# Altium schematic symbol library SMD_Passives.SchLib: 178 symbols (part 1 of 2)
Pins are listed as number, name and electrical type; pins without a type are passive.

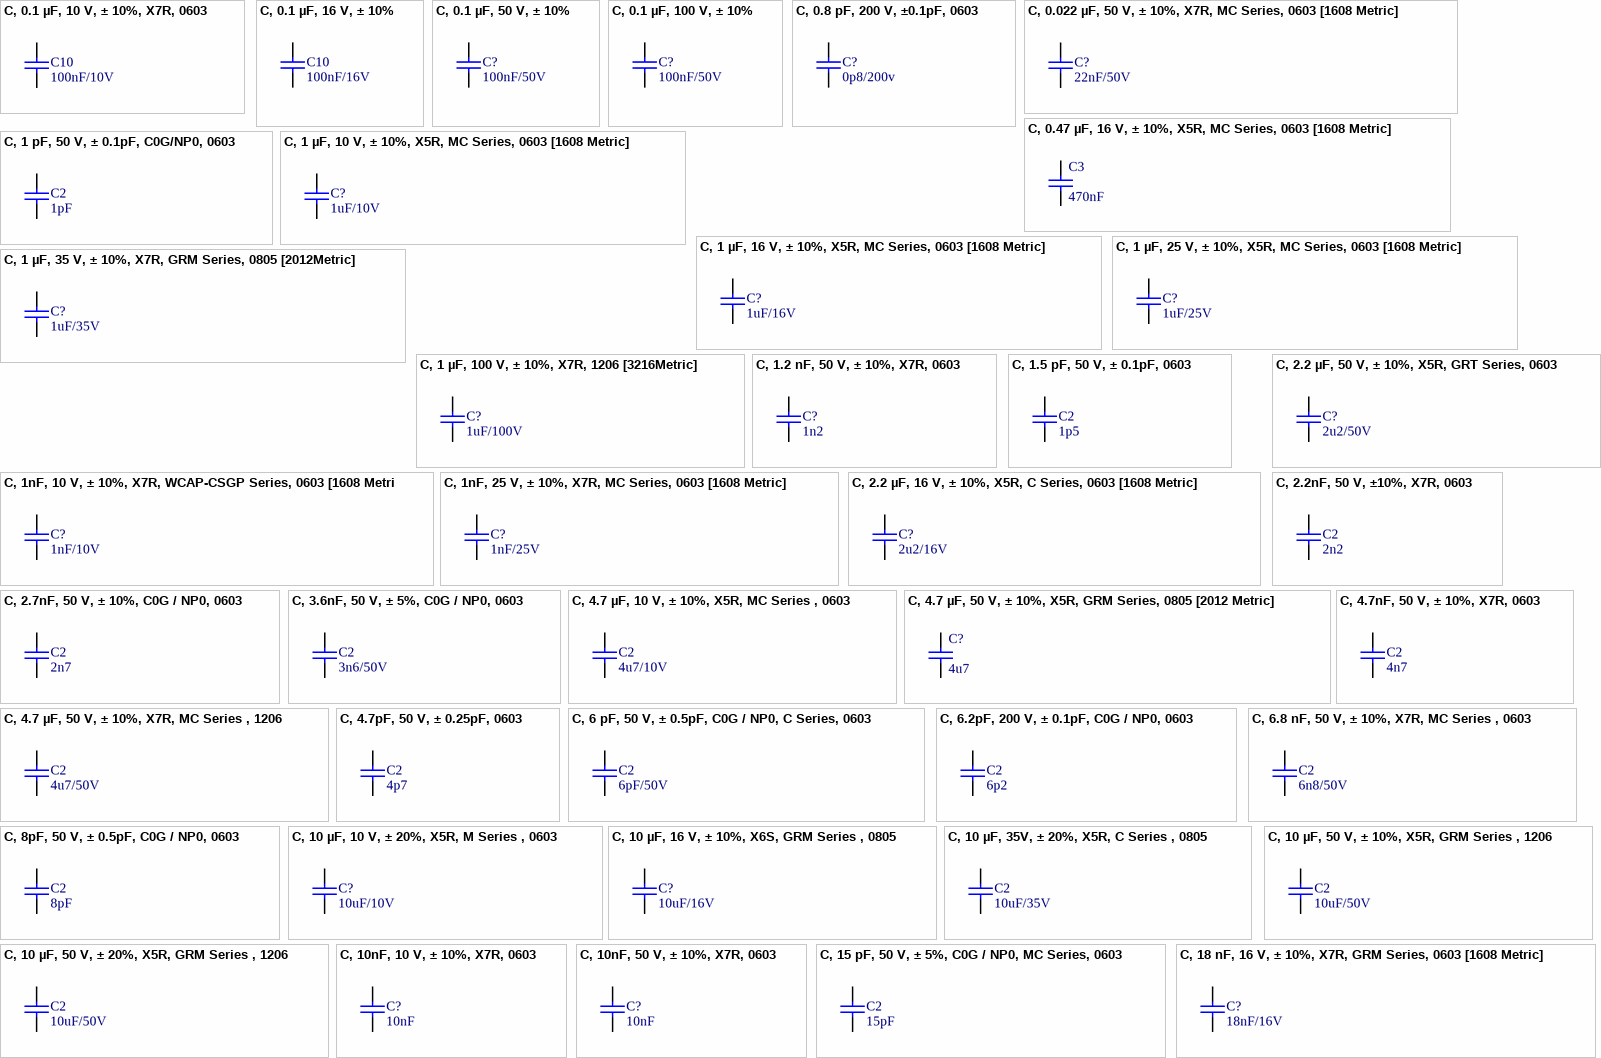
[diagram p0: symbols C, 0.1 µF, 10 V, ± 10%, X7R, 0603 to C, 18 nF, 16 V, ± 10%, X7R, GRM Series, 0603 [1608 Metric]]

## C, 0.1 µF, 10 V, ± 10%, X7R, 0603
designator C10, comment 100nF/10V
SMD Multilayer Ceramic Capacitor, 0603 [1608 Metric], 0.1 µF, 10 V, ± 10%, X7R, MC Series; MPN: MC0603B104K100CT; Type: MLCC; VoltageRating: 10V; MF: Multicomp; Capacitance: 100nF; Characteristic: X7R; ComponentLinknURL: *; Precision: 10%
footprint C0603 (0603 ceramic capacitor)
footprint C0603_BYPADD
footprint C0603_BYPASS
pins: 1, 2

## C, 0.1 µF, 16 V, ± 10%
designator C10, comment 100nF/16V
SMD Multilayer Ceramic Capacitor, 0603 [1608 Metric], 0.1 µF, 16 V, ± 10%, X7R, MC Series; MPN: MC0603B104K160CT; Type: MLCC; VoltageRating: 16V; ComponentLinknDescription: Datasheet; MF: Multicomp; Capacitance: 100nF; Characteristic: *; ComponentLinknURL: *; Precision: 10%
footprint C0603 (0603 ceramic capacitor)
footprint C0603_BYPADD
footprint C0603_BYPASS
pins: 1, 2

## C, 0.1 µF, 50 V, ± 10%
designator C?, comment 100nF/50V
SMD Multilayer Ceramic Capacitor, 0603 [1608 Metric], 0.1 µF, 50 V, ± 10%, X7R, MC Series; MPN: 885012206095; Type: MLCC; VoltageRating: 50V; ComponentLinknDescription: Datasheet; MF: Wurth Electronics; Capacitance: 100nF; Characteristic: *; ComponentLinknURL: *; Precision: 10%
footprint C0603 (0603 ceramic capacitor)
footprint C0603_BYPADD
footprint C0603_BYPASS
pins: 1, 2

## C, 0.1 µF, 100 V, ± 10%
designator C?, comment 100nF/50V
SMD Multilayer Ceramic Capacitor, 1812 [4532 Metric], 0.1 µF, 100 V, ± 5%, C0G / NP0, C Series; MPN: 885012206095; Type: MLCC; VoltageRating: 50V; ComponentLinknDescription: Datasheet; MF: Wurth Electronics; Capacitance: 100nF; Precision: 10%; Characteristic: *; ComponentLinknURL: *
footprint C1812 (1812 capacitor)
pins: 1, 2

## C, 0.8 pF, 200 V, ±0.1pF, 0603
designator C?, comment 0p8/200v
SMD Multilayer Ceramic Capacitor, 0603 [1608 Metric], 0.8 pF, 2000 V, ±0.1pF, C0G; MPN: 06032U0R8BAT2A; Type: MLCC; VoltageRating: 200v; ComponentLinknDescription: Datasheet; MF: AVX; Capacitance: 0p8; Characteristic: *; ComponentLinknURL: *; Precision: 0.1pF
footprint C0603 (0603 ceramic capacitor)
pins: 1, 2

## C, 0.022 µF, 50 V, ± 10%, X7R, MC Series, 0603 [1608 Metric]
designator C?, comment 22nF/50V
SMD Multilayer Ceramic Capacitor, 0603 [1608 Metric], 0.022 µF, 50 V, ± 10%, X7R, MC Series; MPN: MC0603B223K500CT; Type: MLCC; VoltageRating: 50V; MF: MULTICOMP; Capacitance: 22nF; Characteristic: X7R; Precision: 10%
footprint C0603 (0603 ceramic capacitor)
pins: 1, 2

## C, 0.47 µF, 16 V, ± 10%, X5R, MC Series, 0603 [1608 Metric]
designator C3, comment 470nF
SMD Multilayer Ceramic Capacitor, 0603 [1608 Metric], 0.47 µF, 16 V, ± 10%, X5R, MC Series; MPN: MC0603X474K160CT; Type: MLCC; Voltage rating: 16V; ComponentLinknDescription: Datasheet; MF: Multicomp; Characteristic: X5R; ComponentLinknURL: *; Capacitance: 470nF; Precision: 10%
footprint C0603 (0603 ceramic capacitor)
pins: 1, 2

## C, 1 pF, 50 V, ± 0.1pF, C0G/NP0, 0603
designator C2, comment 1pF
SMD Multilayer Ceramic Capacitor, 0603 [1608 Metric], 1 pF, 50 V, ± 0.1pF, C0G / NP0, GRM Series; MPN: GRM1885C1H1R0BA01D; Type: MLCC; VoltageRating: 50V; MF: MURATA; Characteristic: C0G/NP0; Capacitance: 1pF; Precision: ± 0.1pF
footprint C0603 (0603 ceramic capacitor)
pins: 1, 2

## C, 1 µF, 10 V, ± 10%, X5R, MC Series, 0603 [1608 Metric]
designator C?, comment 1uF/10V
SMD Multilayer Ceramic Capacitor, 0603 [1608 Metric], 1 µF, 10 V, ± 10%, X5R, MC Series; MPN: MC0603X105K100CT; Type: MLCC; VoltageRating: 10V; MF: MULTICOMP; Capacitance: 1uF; Characteristic: X5R; Precision: 10%
footprint C0603 (0603 ceramic capacitor)
pins: 1, 2

## C, 1 µF, 16 V, ± 10%, X5R, MC Series, 0603 [1608 Metric]
designator C?, comment 1uF/16V
SMD Multilayer Ceramic Capacitor, 0603 [1608 Metric], 1 µF, 16 V, ± 10%, X5R, MC Series; MPN: MC0603X105K160CT; Type: MLCC; VoltageRating: 16V; MF: MULTICOMP; Capacitance: 1uF; Characteristic: X5R; Precision: 10%
footprint C0603 (0603 ceramic capacitor)
pins: 1, 2

## C, 1 µF, 25 V, ± 10%, X5R, MC Series, 0603 [1608 Metric]
designator C?, comment 1uF/25V
SMD Multilayer Ceramic Capacitor, 0603 [1608 Metric], 1 µF, 25 V, ± 10%, X5R, MC Series; MPN: MC0603X105K250CT; Type: MLCC; VoltageRating: 25V; MF: MULTICOMP; Capacitance: 1uF; Characteristic: X5R; Precision: 10%
footprint C0603 (0603 ceramic capacitor)
pins: 1, 2

## C, 1 µF, 35 V, ± 10%, X7R, GRM Series, 0805 [2012Metric]
designator C?, comment 1uF/35V
SMD Multilayer Ceramic Capacitor, 0805 [2012 Metric], 1 µF, 35 V, ± 10%, X7R, GCM Series; MPN: GCM21BR7YA105KA55L; Type: MLCC; VoltageRating: 35V; MF: MURATA; Capacitance: 1uF; Characteristic: X7R; Precision: 10%
footprint C0603 (0603 ceramic capacitor)
pins: 1, 2

## C, 1 µF, 100 V, ± 10%, X7R, 1206 [3216Metric]
designator C?, comment 1uF/100V
SMD Multilayer Ceramic Capacitor, 1206 [3216 Metric], 1 µF, 100 V, ± 10%, X7R; MPN: 12061C105KAT2A; Type: MLCC; VoltageRating: 100V; MF: AVX; Capacitance: 1uF; Characteristic: X7R; Precision: 10%
footprint C1206 (1206 ceramic capacitor)
pins: 1, 2

## C, 1.2 nF, 50 V, ± 10%, X7R, 0603
designator C?, comment 1n2
SMD Multilayer Ceramic Capacitor, General Purpose, 0603 [1608 Metric], 1200 pF, 50 V, ± 10%, X7R; MPN: 0603B122K500CT; Type: MLCC; VoltageRating: 50V; MF: WALSIN; Characteristic: X7R; Capacitance: 1n2; Precision: 10%
footprint C0603 (0603 ceramic capacitor)
pins: 1, 2

## C, 1.5 pF, 50 V, ± 0.1pF, 0603
designator C2, comment 1p5
SMD Multilayer Ceramic Capacitor, Hi-Q®, 0603 [1608 Metric], 1.5 pF, 250 V, ± 0.1pF, ML Series; MPN: ML03V11R5BAT2A; Type: MLCC; VoltageRating: 50V; MF: AVX; Capacitance: 1p5; Precision: ± 0.1pF
footprint C0603 (0603 ceramic capacitor)
pins: 1, 2

## C, 1nF, 10 V, ± 10%, X7R, WCAP-CSGP Series, 0603 [1608 Metric]
designator C?, comment 1nF/10V
SMD Multilayer Ceramic Capacitor, 0603 [1608 Metric], 1000 pF, 25 V, ± 10%, X7R, MC Series; MPN: 885012206014; Type: MLCC; VoltageRating: 10V; MF: WURTH ELECTRONIC; Capacitance: 1nF; Characteristic: X7R; Precision: 10%
footprint C0603 (0603 ceramic capacitor)
pins: 1, 2

## C, 1nF, 25 V, ± 10%, X7R, MC Series, 0603 [1608 Metric]
designator C?, comment 1nF/25V
SMD Multilayer Ceramic Capacitor, 0603 [1608 Metric], 1000 pF, 25 V, ± 10%, X7R, MC Series; MPN: MC0603B102K250CT; Type: MLCC; VoltageRating: 25V; MF: MULTICOMP; Capacitance: 1nF; Characteristic: X7R; Precision: 10%
footprint C0603 (0603 ceramic capacitor)
pins: 1, 2

## C, 2.2 µF, 16 V, ± 10%, X5R, C Series, 0603 [1608 Metric]
designator C?, comment 2u2/16V
SMD Multilayer Ceramic Capacitor, 0603 [1608 Metric], 2.2 µF, 16 V, ± 10%, X5R, C Series; MPN: C0603C225K4PACTU; Type: MLCC; VoltageRating: 16V; MF: KEMET; Capacitance: 2u2; Characteristic: X5R; Precision: 10%
footprint C0603 (0603 ceramic capacitor)
pins: 1, 2

## C, 2.2 µF, 50 V, ± 10%, X5R, GRT Series, 0603
designator C?, comment 2u2/50V
SMD Multilayer Ceramic Capacitor, 0603 [1608 Metric], 2.2 µF, 50 V, ± 10%, X5R, GRT Series; MPN: GRT188R61H225KE13D; Type: MLCC; VoltageRating: 50V; MF: MURATA; Capacitance: 2u2; Characteristic: X5R; Precision: 10%
footprint C0603 (0603 ceramic capacitor)
pins: 1, 2

## C, 2.2nF, 50 V, ±10%, X7R, 0603
designator C2, comment 2n2
SMD Multilayer Ceramic Capacitor, 0603 [1608 Metric], 2200 pF, 50 V, ± 10%, X7R, MC Series; MPN: MC0603B222K500CT; Type: MLCC; VoltageRating: 50V; MF: MULTICOMP; Characteristic: X7R; Capacitance: 2n2; Precision: ±10%
footprint C0603 (0603 ceramic capacitor)
pins: 1, 2

## C, 2.7nF, 50 V, ± 10%, C0G / NP0, 0603
designator C2, comment 2n7
SMD Multilayer Ceramic Capacitor, 0603 [1608 Metric], 2700 pF, 50 V, ± 10%, X7R, MC Series; MPN: MC0603B272K500CT; Type: MLCC; VoltageRating: 50V; MF: MULTICOMP; Characteristic: X7R; Capacitance: 2n7; Precision: 10%
footprint C0603 (0603 ceramic capacitor)
pins: 1, 2

## C, 3.6nF, 50 V, ± 5%, C0G / NP0, 0603
designator C2, comment 3n6/50V
SMD Multilayer Ceramic Capacitor, 0603 [1608 Metric], 3600 pF, 50 V, ± 5%, C0G / NP0, C Series; MPN: C1608C0G1H151J080AA; Type: MLCC; VoltageRating: 50V; MF: TDK; Capacitance: 3n6; Characteristic: C0G/NP0; Precision: 5%
footprint C0603 (0603 ceramic capacitor)
pins: 1, 2

## C, 4.7 µF, 10 V, ± 10%, X5R, MC Series , 0603
designator C2, comment 4u7/10V
SMD Multilayer Ceramic Capacitor, 0603 [1608 Metric], 4.7 µF, 10 V, ± 10%, X5R, MC Series; MPN: MC0603X475K100CT; Type: MLCC; VoltageRating: 10V; MF: MULTICOMP; Capacitance: 4u7; Characteristic: X5R; Precision: 10%
footprint C0603 (Footprint not found)
pins: 1, 2

## C, 4.7 µF, 50 V, ± 10%, X5R, GRM Series, 0805 [2012 Metric]
designator C?, comment 4u7
SMD Multilayer Ceramic Capacitor, 0805 [2012 Metric], 4.7 µF, 50 V, ± 10%, X5R, GRM Series; MPN: GRM21BR61H475KE51L; Type: MLCC; Voltage rating: 50V; ComponentLinknDescription: Datasheet; MF: MURATA; Characteristic: X5R; ComponentLinknURL: *; Capacitance: 4u7; Precision: 10%
footprint C0805 (0805 ceramic capacitor)
pins: 1, 2

## C, 4.7 µF, 50 V, ± 10%, X7R, MC Series , 1206
designator C2, comment 4u7/50V
SMD Multilayer Ceramic Capacitor, 1206 [3216 Metric], 4.7 µF, 50 V, ± 10%, X7R, MC Series; MPN: MC1206B475K500CT; Type: MLCC; VoltageRating: 50V; MF: MULTICOMP; Capacitance: 4u7; Characteristic: X7R; Precision: 10%
footprint C1206 (1206 ceramic capacitor)
pins: 1, 2

## C, 4.7nF, 50 V, ± 10%, X7R, 0603
designator C2, comment 4n7
SMD Multilayer Ceramic Capacitor, 0603 [1608 Metric], 4700 pF, 50 V, ± 10%, X7R, MC Series; MPN: MC0603B472K500CT; Type: MLCC; VoltageRating: 50V; MF: MULTICOMP; Characteristic: X7R; Capacitance: 4n7; Precision: 10%
footprint C0603 (0603 ceramic capacitor)
pins: 1, 2

## C, 4.7pF, 50 V, ± 0.25pF, 0603
designator C2, comment 4p7
SMD Multilayer Ceramic Capacitor, General Purpose, 0603 [1608 Metric], 4.7 pF, 50 V, ± 0.25pF; MPN: MC0603B471J500CT; Type: MLCC; VoltageRating: 50V; MF: MULTICOMP; Capacitance: 4p7; Precision: ±0.25pF
footprint C0603 (0603 ceramic capacitor)
pins: 1, 2

## C, 6 pF, 50 V, ± 0.5pF, C0G / NP0, C Series, 0603
designator C2, comment 6pF/50V
SMD Multilayer Ceramic Capacitor, 0603 [1608 Metric], 6 pF, 50 V, ± 0.5pF, C0G / NP0, C Series; MPN: C1608C0G1H060D080AA; Type: MLCC; VoltageRating: 50V; MF: TDK; Capacitance: 6pF; Characteristic: C0G / NP0; Precision: ± 0.5pF
footprint C0603 (Footprint not found)
pins: 1, 2

## C, 6.2pF, 200 V, ± 0.1pF, C0G / NP0, 0603
designator C2, comment 6p2
Multilayer Ceramic Capacitors MLCC - SMD/SMT 200V 6.2pF C0G 0603 .1pF Tol; MPN: 06032U6R2BAT2A; Characteristic: C0G/NP0; MF: AVX; Precision: 0.1pF; Type: MLCC; VoltageRating: 200V; Capacitance: 6p2
footprint C0603 (0603 ceramic capacitor)
pins: 1, 2

## C, 6.8 nF, 50 V, ± 10%, X7R, MC Series , 0603
designator C2, comment 6n8/50V
SMD Multilayer Ceramic Capacitor, 0603 [1608 Metric], 6800 pF, 50 V, ± 10%, X7R, MC Series; MPN: MC0603B682K500CT; Type: MLCC; VoltageRating: 50V; MF: MULTICOMP; Capacitance: 6n8; Characteristic: X7R; Precision: 10%
footprint C0603 (Footprint not found)
pins: 1, 2

## C, 8pF, 50 V, ± 0.5pF, C0G / NP0, 0603
designator C2, comment 8pF
SMD Multilayer Ceramic Capacitor, 0603 [1608 Metric], 8 pF, 50 V, ± 0.5pF, C0G / NP0, MC Series; MPN: MC0603N8R0D500CT; Type: MLCC; VoltageRating: 50; MF: MULTICOMP; Characteristic: C0G/NP0; Capacitance: 8pF; Precision: 0.5pF
footprint C0603 (0603 ceramic capacitor)
pins: 1, 2

## C, 10 µF, 10 V, ± 20%, X5R, M Series , 0603
designator C?, comment 10uF/10V
SMD Multilayer Ceramic Capacitor, 0603 [1608 Metric], 10 µF, 10 V, ± 20%, X5R, M Series; MPN: LMK107BBJ106MALT; Type: MLCC; VoltageRating: 10V; MF: TAIYO YUDEN; Capacitance: 10uF; Characteristic: X5R; Precision: 20%
footprint C0603 (0603 ceramic capacitor)
pins: 1, 2

## C, 10 µF, 16 V, ± 10%, X6S, GRM Series , 0805
designator C?, comment 10uF/16V
SMD Multilayer Ceramic Capacitor, 0603 [1608 Metric], 10 µF, 10 V, ± 20%, X5R, M SeriesSMD Multilayer Ceramic Capacitor, 0805 [2012 Metric], 10 µF, 16 V, ± 10%, X6S, GRM Series; MPN: GRM21BC81C106KE15L; Type: MLCC; VoltageRating: 16V; MF: MURATA; Capacitance: 10uF; Characteristic: X6S; Precision: 10%
footprint C0805 (0805 ceramic capacitor)
pins: 1, 2

## C, 10 µF, 35V, ± 20%, X5R, C Series , 0805
designator C2, comment 10uF/35V
SMD Multilayer Ceramic Capacitor, 0805 [2012 Metric], 10 µF, 35 V, ± 20%, X5R, C Series; MPN: C2012X5R1V106M085AC; Type: MLCC; VoltageRating: 35V; MF: TDK; Capacitance: 10uF; Characteristic: X5R; Precision: 20%
footprint C0805 (0805 ceramic capacitor)
pins: 1, 2

## C, 10 µF, 50 V, ± 10%, X5R, GRM Series , 1206
designator C2, comment 10uF/50V
SMD Multilayer Ceramic Capacitor, 1206 [3216 Metric], 10 µF, 50 V, ± 10%, X5R, C Series; MPN: C3216X5R1H106K160AB; Type: MLCC; VoltageRating: 50V; MF: TDK; Capacitance: 10uF; Characteristic: X5R; Precision: 10%
footprint C1206 (1206 ceramic capacitor)
pins: 1, 2

## C, 10 µF, 50 V, ± 20%, X5R, GRM Series , 1206
designator C2, comment 10uF/50V
SMD Multilayer Ceramic Capacitor, 1206 [3216 Metric], 10 µF, 50 V, ± 20%, X5R, GRM Series; MPN: GRM31CR61H106MA12L; Type: MLCC; VoltageRating: 50V; MF: MURATA; Capacitance: 10uF; Characteristic: X5R; Precision: 20%
footprint C1206 (1206 ceramic capacitor)
pins: 1, 2

## C, 10nF, 10 V, ± 10%, X7R, 0603
designator C?, comment 10nF
SMD Multilayer Ceramic Capacitor, 0603 [1608 Metric], 0.01 µF, 10 V, ± 10%, X7R, MCSH Series; MPN: MCSH18B103K100CT; Type: MLCC; VoltageRating: 10V; MF: MULTICOMP; Characteristic: X7R; Capacitance: 10nF; Precision: 10%
footprint C0603 (0603 ceramic capacitor)
pins: 1, 2

## C, 10nF, 50 V, ± 10%, X7R, 0603
designator C?, comment 10nF
SMD Multilayer Ceramic Capacitor, 0603 [1608 Metric], 0.01 µF, 50 V, ± 10%, X7R, MC Series; MPN: MC0603B103K500CT; Type: MLCC; VoltageRating: 50V; MF: MULTICOMP; Characteristic: X7R; Capacitance: 10nF; Precision: 10%
footprint C0603 (0603 ceramic capacitor)
pins: 1, 2

## C, 15 pF, 50 V, ± 5%, C0G / NP0, MC Series, 0603
designator C2, comment 15pF
SMD Multilayer Ceramic Capacitor, 0603 [1608 Metric], 15 pF, 50 V, ± 5%, C0G / NP0, MC Series; MPN: MC0603N150J500CT; Type: MLCC; VoltageRating: 50V; MF: MULTICOMP; Characteristic: C0G / NP0; Capacitance: 15pF; Precision: ±5%
footprint C0603 (0603 ceramic capacitor)
pins: 1, 2

## C, 18 nF, 16 V, ± 10%, X7R, GRM Series, 0603 [1608 Metric]
designator C?, comment 18nF/16V
SMD Multilayer Ceramic Capacitor, 0603 [1608 Metric], 18 nF, 16 V, ± 10%, X7R, GRM Series; MPN: GRM188R71C183KA01D; Type: MLCC; VoltageRating: 16V; MF: MURATA; Capacitance: 18nF; Characteristic: X7R; Precision: 10%
footprint C0603 (0603 ceramic capacitor)
pins: 1, 2

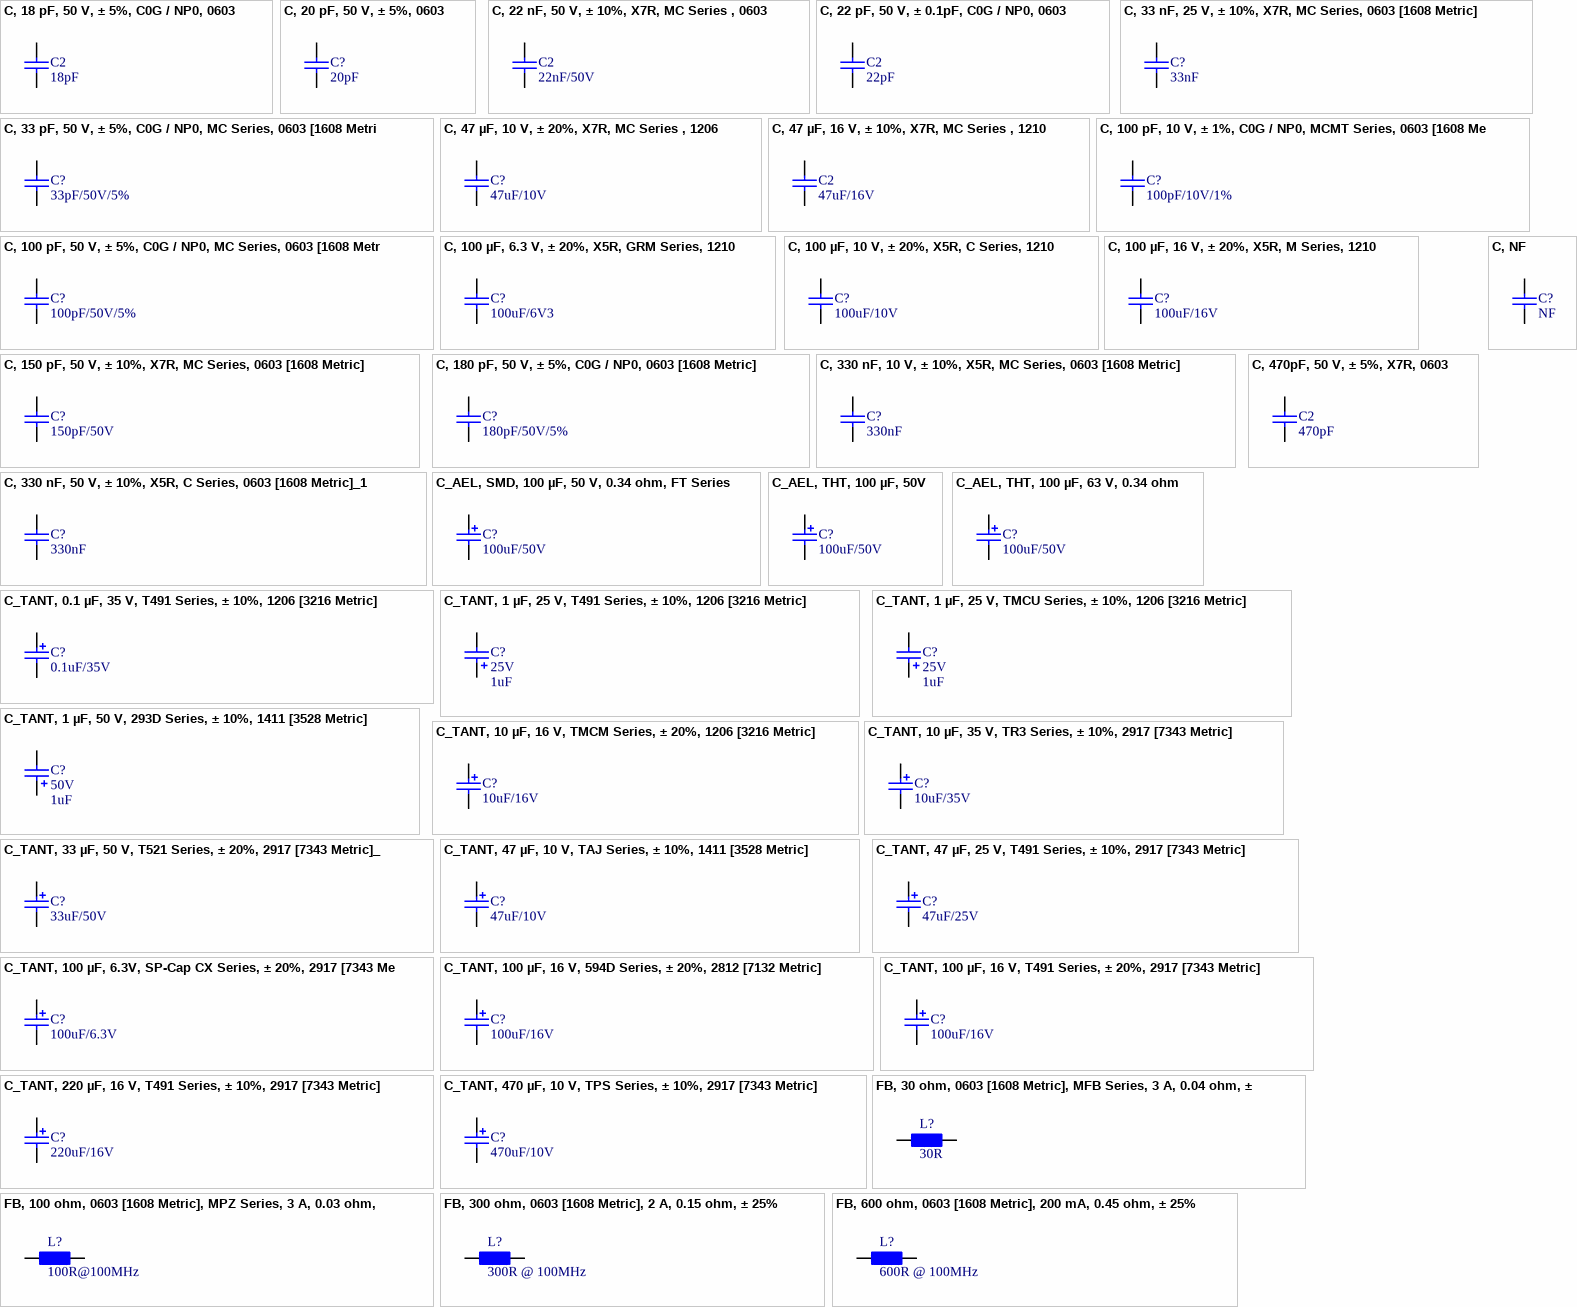
[diagram p1: symbols C, 18 pF, 50 V, ± 5%, C0G / NP0, 0603 to FB, 600 ohm, 0603 [1608 Metric], 200 mA, 0.45 ohm, ± 25%]

## C, 18 pF, 50 V, ± 5%, C0G / NP0, 0603
designator C2, comment 18pF
SMD Multilayer Ceramic Capacitor, 0603 [1608 Metric], 18 pF, 50 V, ± 5%, C0G / NP0, MC Series; MPN: MC0603N180J500CT; Type: MLCC; VoltageRating: 50V; MF: MULTICOMP; Characteristic: C0G/NP0; Capacitance: 18pF; Precision: 5%
footprint C0603 (0603 ceramic capacitor)
pins: 1, 2

## C, 20 pF, 50 V, ± 5%, 0603
designator C?, comment 20pF
SMD Multilayer Ceramic Capacitor, General Purpose, 0603 [1608 Metric], 20 pF, 50 V, ± 5%, C0G / NP0; MPN: 0603N200J500CT; Type: MLCC; VoltageRating: 50V; MF: WALSIN; Capacitance: 20pF; Precision: ±5%
footprint C0603 (0603 ceramic capacitor)
pins: 1, 2

## C, 22 nF, 50 V, ± 10%, X7R, MC Series , 0603
designator C2, comment 22nF/50V
SMD Multilayer Ceramic Capacitor, 1206 [3216 Metric], 0.22 µF, 50 V, ± 10%, X7R, MC Series; MPN: MC1206B224K500CT; Type: MLCC; VoltageRating: 50V; MF: MULTICOMP; Capacitance: 22nF; Characteristic: X7R; Precision: 10%
footprint C0603 (Footprint not found)
pins: 1, 2

## C, 22 pF, 50 V, ± 0.1pF, C0G / NP0, 0603
designator C2, comment 22pF
SMD Multilayer Ceramic Capacitor, 0603 [1608 Metric], 22 pF, 50 V, ± 10%, C0G / NP0, MC Series; MPN: MC0603N220K500CT; Type: MLCC; VoltageRating: 50V; MF: MULTICOMP; Precision: 1%; Characteristic: C0G/NP0; Capacitance: 22pF
footprint C0603 (0603 ceramic capacitor)
pins: 1, 2

## C, 33 nF, 25 V, ± 10%, X7R, MC Series, 0603 [1608 Metric]
designator C?, comment 33nF
SMD Multilayer Ceramic Capacitor, 0603 [1608 Metric], 0.033 µF, 25 V, ± 10%, X7R; MPN: 0603B333K250CT; Type: MLCC; VoltageRating: 25V; MF: WALSIN; Characteristic: X7R; Capacitance: 33nF; Precision: 10%
footprint C0603 (0603 ceramic capacitor)
pins: 1, 2

## C, 33 pF, 50 V, ± 5%, C0G / NP0, MC Series, 0603 [1608 Metric]
designator C?, comment 33pF/50V/5%
SMD Multilayer Ceramic Capacitor, 0603 [1608 Metric], 33 pF, 50 V, ± 5%, C0G / NP0, MC Series; MPN: MC0603N330J500CT; Type: MLCC; VoltageRating: 50V; MF: MULTICOMP; Capacitance: 33pF; Characteristic: C0G / NP0; Precision: 5%
footprint C0603 (0603 ceramic capacitor)
pins: 1, 2

## C, 47 µF, 10 V, ± 20%, X7R, MC Series , 1206
designator C?, comment 47uF/10V
SMD Multilayer Ceramic Capacitor, 1206 [3216 Metric], 47 µF, 10 V, ± 20%, X5R, GRM Series; MPN: GRM31CR61A476ME15L; Type: MLCC; VoltageRating: 10V; MF: MURATA; Capacitance: 47uF; Characteristic: X5R; Precision: 20%
footprint C1206 (1206 ceramic capacitor)
pins: 1, 2

## C, 47 µF, 16 V, ± 10%, X7R, MC Series , 1210
designator C2, comment 47uF/16V
SMD Multilayer Ceramic Capacitor, 1210 [3225 Metric], 47 µF, 16 V, ± 20%, X5R, GRM Series; MPN: GRM32ER61C476ME15L; Type: MLCC; VoltageRating: 16V; Characteristic: X7R; MF: MURATA; Capacitance: 47uF; Precision: 10%
footprint C1210 (1210 capacitor)
pins: 1, 2

## C, 100 pF, 10 V, ± 1%, C0G / NP0, MCMT Series, 0603 [1608 Metric]
designator C?, comment 100pF/10V/1%
SMD Multilayer Ceramic Capacitor, 0603 [1608 Metric], 100 pF, 10 V, ± 1%, C0G / NP0, MCMT Series; MPN: MCMT18N101F100CT; Type: MLCC; VoltageRating: 10V; MF: MULTICOMP; Capacitance: 100pF; Characteristic: C0G / NP0; Precision: 1%
footprint C0603 (0603 ceramic capacitor)
pins: 1, 2

## C, 100 pF, 50 V, ± 5%, C0G / NP0, MC Series, 0603 [1608 Metric]
designator C?, comment 100pF/50V/5%
SMD Multilayer Ceramic Capacitor, 0603 [1608 Metric], 100 pF, 50 V, ± 5%, C0G / NP0, MC Series; MPN: MC0603N101J500CT; Type: MLCC; VoltageRating: 50V; MF: MULTICOMP; Capacitance: 100pF; Characteristic: C0G / NP0; Precision: 5%
footprint C0603 (0603 ceramic capacitor)
pins: 1, 2

## C, 100 µF, 6.3 V, ± 20%, X5R, GRM Series, 1210
designator C?, comment 100uF/6V3
SMD Multilayer Ceramic Capacitor, 1210 [3225 Metric], 100 µF, 6.3 V, ± 20%, X5R, GRM Series; MPN: GRM31CR60J107ME39L.; Type: MLCC; VoltageRating: 6V3; MF: MURATA; Capacitance: 100uF; Characteristic: X5R; Precision: 20%
footprint C1210 (1210 capacitor)
pins: 1, 2

## C, 100 µF, 10 V, ± 20%, X5R, C Series, 1210
designator C?, comment 100uF/10V
SMD Multilayer Ceramic Capacitor, 1210 [3225 Metric], 100 µF, 10 V, ± 20%, X5R, C Series; MPN: C1210C107M8PACTU; Type: MLCC; VoltageRating: 10V; MF: KEMET; Capacitance: 100uF; Characteristic: X5R; Precision: 20%
footprint C1210 (1210 capacitor)
pins: 1, 2

## C, 100 µF, 16 V, ± 20%, X5R, M Series, 1210
designator C?, comment 100uF/16V
SMD Multilayer Ceramic Capacitor, 1210 [3225 Metric], 100 µF, 16 V, ± 20%, X5R, M Series; MPN: EMK325ABJ107MM-T; Type: MLCC; VoltageRating: 16V; MF: TAIYO YUDEN; Capacitance: 100uF; Characteristic: X5R; Precision: 20%
footprint C1210 (1210 capacitor)
pins: 1, 2

## C, 150 pF, 50 V, ± 10%, X7R, MC Series, 0603 [1608 Metric]
designator C?, comment 150pF/50V
SMD Multilayer Ceramic Capacitor, 0603 [1608 Metric], 150 pF, 50 V, ± 10%, X7R, MC Series; MPN: MC0603B151K500CT; Type: MLCC; VoltageRating: 50V; MF: MULTICOMP; Capacitance: 150pF; Characteristic: X7R; Precision: 10%
footprint C0603 (0603 ceramic capacitor)
pins: 1, 2

## C, 180 pF, 50 V, ± 5%, C0G / NP0, 0603 [1608 Metric]
designator C?, comment 180pF/50V/5%
SMD Multilayer Ceramic Capacitor, 0603 [1608 Metric], 180 pF, 50 V, ± 5%, C0G / NP0; MPN: 0603N181J500CT; Type: MLCC; VoltageRating: 50V; MF: WALSIN; Capacitance: 180pF; Characteristic: C0G / NP0; Precision: 5%
footprint C0603 (0603 ceramic capacitor)
pins: 1, 2

## C, 330 nF, 10 V, ± 10%, X5R, MC Series, 0603 [1608 Metric]
designator C?, comment 330nF
SMD Multilayer Ceramic Capacitor, 0603 [1608 Metric], 0.33 µF, 10 V, ± 10%, X5R, MC Series; MPN: MC0603X334K100CT; Type: MLCC; VoltageRating: 10V; Characteristic: C0G / NP0; MF: MULTICOMP; Capacitance: 330nF; Precision: 10%
footprint C0603 (0603 ceramic capacitor)
pins: 1, 2

## C, 330 nF, 50 V, ± 10%, X5R, C Series, 0603 [1608 Metric]_1
designator C?, comment 330nF
SMD Multilayer Ceramic Capacitor, 0603 [1608 Metric], 0.33 µF, 50 V, ± 10%, X5R, C Series; MPN: C1608X5R1H334K080AB; Type: MLCC; VoltageRating: 50V; MF: TDK; Characteristic: X5R; Capacitance: 330nF; Precision: 10%
footprint C0603 (0603 ceramic capacitor)
pins: 1, 2

## C, 470pF, 50 V, ± 5%, X7R, 0603
designator C2, comment 470pF
SMD Multilayer Ceramic Capacitor, 0603 [1608 Metric], 470 pF, 50 V, ± 5%, X7R, MC Series; MPN: MC0603B471J500CT; Type: MLCC; VoltageRating: 50V; Characteristic: C0G/NP0; MF: MULTICOMP; Capacitance: 470pF; Precision: ±5%
footprint C0603 (0603 ceramic capacitor)
pins: 1, 2

## C, NF
designator C?, comment NF
Not fitted; Type: MLCC
footprint C0603 (0603 ceramic capacitor)
pins: 1, 2

## C_AEL, SMD, 100 µF, 50 V, 0.34 ohm, FT Series
designator C?, comment 100uF/50V
SMD Aluminium Electrolytic Capacitor, Radial Can - SMD, 100 µF, 50 V, 0.34 ohm, FT Series; MPN: EEEFTH101XAP; Type: MLCC; VoltageRating: 50V; MF: PANASONIC ELECTRONIC COMPONENTS; Capacitance: 100uF
footprint EEEFTH101XAP (Aluminum Electrolytic Capacitor, Body 6,60x6,60x8,00mm, IPC High Density)
pins: 1, 2

## C_AEL, THT, 100 µF, 50V
designator C?, comment 100uF/50V
Capacitor: electrolytic; THT; 100uF; 50VDC; Ø8x12mm; Pitch:3.5mm; MPN: CE-100/50PHT-Y; VoltageRating: 50V; MF: AISHI; Precision: ±20%; Type: electrolytic; Capacitance: 100uF
footprint CAP_AEL, THT, 3.5, PF1H101MNN08B5 (Capacitor: electrolytic; THT; 100uF; 50VDC; Ø8x11.5mm; Pitch:3.5mm)
pins: 1, 2

## C_AEL, THT, 100 µF, 63 V, 0.34 ohm
designator C?, comment 100uF/50V
Capacitor: electrolytic; THT; 100uF; 50VDC; Ø8x11.5mm; Pitch:3.5mm; MPN: PF1H101MNN08B5; VoltageRating: 50V; MF: ELITE; Precision: ±20%; Type: electrolytic; Capacitance: 100uF
footprint CAP_AEL, THT, 3.5, PF1H101MNN08B5 (Capacitor: electrolytic; THT; 100uF; 50VDC; Ø8x11.5mm; Pitch:3.5mm)
pins: 1, 2

## C_TANT, 0.1 µF, 35 V, T491 Series, ± 10%, 1206 [3216 Metric]
designator C?, comment 0.1uF/35V
Surface Mount Tantalum Capacitor, 0.1 µF, 35 V, T491 Series, ± 10%, 1206 [3216 Metric]; MPN: T491A104K035AT; VoltageRating: 35V; MF: KEMET; Capacitance: 0.1uF; Type: Tantalum; Precision: ±10%
footprint TAN_A_S (Capacitor, SM Tantalum; Body 3.2 x 1.6 mm (LxW typ))
pins: 1, 2

## C_TANT, 1 µF, 25 V, T491 Series, ± 10%, 1206 [3216 Metric]
designator C?, comment Voltage rating: 25V  (hidden comment: 1uF)
Polarized Capacitor; MPN: T491A105K025AT; ComponentLinknDescription: Datasheet; ESR: 8R; MF: Kemet; HelpURL: http://ee.farnell.com/kemet/t491a105k025at/cap-tant-1uf-25v-case-a/dp/1457409; Temp MAX: 125*C; Temp MIN: -55*C; Capacitance: 1uF
footprint TAN_A_S (Capacitor, SM Tantalum; Body 3.2 x 1.6 mm (LxW typ))
pins: 1, 2
1 alternate drawing of the same symbol

## C_TANT, 1 µF, 25 V, TMCU Series, ± 10%, 1206 [3216 Metric]
designator C?, comment Voltage rating: 25V  (hidden comment: 1uF)
Surface Mount Tantalum Capacitor, 1 µF, 25 V, TMCU Series, ± 10%, 1206 [3216 Metric]; MPN: TMCUA1E105KTRF; ComponentLinknDescription: Datasheet; ESR: 16.5R; MF: VISHAY; HelpURL: http://uk.farnell.com/vishay/tmcua1e105ktrf/capacitor-tantalum-1uf-25v-1206/dp/2491464RL; Temp MAX: 125*C; Temp MIN: -55*C; Capacitance: 1uF
footprint TAN_A_S (Capacitor, SM Tantalum; Body 3.2 x 1.6 mm (LxW typ))
pins: 1, 2
1 alternate drawing of the same symbol

## C_TANT, 1 µF, 50 V, 293D Series, ± 10%, 1411 [3528 Metric]
designator C?, comment Voltage rating: 50V  (hidden comment: 1uF)
Surface Mount Tantalum Capacitor, TANTAMOUNT®, 1 µF, 50 V, 293D Series, ± 10%, 1411 [3528 Metric]; MPN: 293D105X9050B2TE3; ComponentLinknDescription: Datasheet; ESR: 6.7R; MF: VISHAY; HelpURL: http://ee.farnell.com/vishay/293d105x9050b2te3/cap-tant-1uf-50v-case-b/dp/1754237; Temp MAX: 125*C; Temp MIN: -55*C; Capacitance: 1uF
footprint TAN_B_T (Capacitor, SM Tantalum; Body 3.5 x 2.8 mm (LxW typ))
pins: 1, 2
1 alternate drawing of the same symbol

## C_TANT, 10 µF, 16 V, TMCM Series, ± 20%, 1206 [3216 Metric]
designator C?, comment 10uF/16V
Cap Tant Solid 10uF 16V A CASE 20% (3.2 X 1.6 X 1.6mm) SMD 3216-18 2.9 Ohm 125°C T/R; MPN: TMCMA1C106MTRF; Type: MLCC; MF: Vishay / Sprague; VoltageRating: 16V; Capacitance: 10uF; Precision: 20%
footprint TAN_A_S (Capacitor, SM Tantalum; Body 3.2 x 1.6 mm (LxW typ))
pins: 1, 2

## C_TANT, 10 µF, 35 V, TR3 Series, ± 10%, 2917 [7343 Metric]
designator C?, comment 10uF/35V
Surface Mount Tantalum Capacitor, TANTAMOUNT®, 10 µF, 35 V, TR3 Series, ± 10%, 2917 [7343 Metric]; MPN: TR3E106K035C0200; Type: MLCC; VoltageRating: 35V; MF: VISHAY; Capacitance: 10uF; Precision: 20%
footprint TAN_X/E (Capacitor, SM Tantalum; Body 7.3 x 4.3 mm (LxW typ))
pins: 1, 2

## C_TANT, 33 µF, 50 V, T521 Series, ± 20%, 2917 [7343 Metric]_1
designator C?, comment 33uF/50V
Surface Mount Tantalum Capacitor, 33 µF, 50 V, T521 Series, ± 20%, 2917 [7343 Metric]; MPN: T521X336M050ATE075; Type: MLCC; VoltageRating: 50V; MF: KEMET; Capacitance: 33uF; Precision: 20%
footprint TAN_X/E (Capacitor, SM Tantalum; Body 7.3 x 4.3 mm (LxW typ))
pins: 1, 2

## C_TANT, 47 µF, 10 V, TAJ Series, ± 10%, 1411 [3528 Metric]
designator C?, comment 47uF/10V
Surface Mount Tantalum Capacitor, 47 µF, 25 V, T491 Series, ± 10%, 2917 [7343 Metric]; MPN: TAJB476K010RNJ; Type: TANTAL; VoltageRating: 10V; MF: AVX; Capacitance: 47uF; Precision: 10%
footprint TAN_B_T (Capacitor, SM Tantalum; Body 3.5 x 2.8 mm (LxW typ))
pins: 1, 2

## C_TANT, 47 µF, 25 V, T491 Series, ± 10%, 2917 [7343 Metric]
designator C?, comment 47uF/25V
Surface Mount Tantalum Capacitor, 47 µF, 25 V, T491 Series, ± 10%, 2917 [7343 Metric]; MPN: T491X476K025AT; Type: TANTAL; VoltageRating: 25V; MF: KEMET; Capacitance: 47uF; Precision: 10%
footprint TAN_X/E (Capacitor, SM Tantalum; Body 7.3 x 4.3 mm (LxW typ))
pins: 1, 2

## C_TANT, 100 µF, 6.3V, SP-Cap CX Series, ± 20%, 2917 [7343 Metric]
designator C?, comment 100uF/6.3V
Capacitor, 100 µF, 6.3 V, SP-Cap CX Series, 2917 [7343 Metric], 0.015 ohm, 1000 hours @ 105°C; MPN: EEFCX0J101R; Type: Aluminium Polymer; VoltageRating: 6.3V; MF: PANASONIC ELECTRONIC COMPONENTS; Capacitance: 100uF; Precision: 20%; ESR: 0.015 ohm
footprint TAN_CX (Capacitor, SM Tantalum; Body 7.3 x 4.3 mm (LxW typ))
pins: 1, 2

## C_TANT, 100 µF, 16 V, 594D Series, ± 20%, 2812 [7132 Metric]
designator C?, comment 100uF/16V
Surface Mount Tantalum Capacitor, TANTAMOUNT®, 100 µF, 16 V, 594D Series, ± 20%, 2812 [7132 Metric]; MPN: 594D107X0016C2T; VoltageRating: 16V; MF: VISHAY; Capacitance: 100uF; Precision: 20%
footprint C_TANT_594D Series_CASE_C
pins: 1, 2

## C_TANT, 100 µF, 16 V, T491 Series, ± 20%, 2917 [7343 Metric]
designator C?, comment 100uF/16V
Surface Mount Tantalum Capacitor, 100 µF, 16 V, T491 Series, ± 20%, 2917 [7343 Metric]; MPN: T491D107M016AT; Type: MLCC; VoltageRating: 16V; Characteristic: X5R; MF: KEMET; Capacitance: 100uF; Precision: 20%
footprint TAN_V/Y_D (Capacitor, SM Tantalum; Body 7.3 x 4.3 mm (LxW typ))
pins: 1, 2

## C_TANT, 220 µF, 16 V, T491 Series, ± 10%, 2917 [7343 Metric]
designator C?, comment 220uF/16V
Surface Mount Tantalum Capacitor, 220 µF, 16 V, T491 Series, ± 10%, 2917 [7343 Metric]; MPN: T491D227K016AT; VoltageRating: 16V; MF: KEMET; Capacitance: 220uF; Precision: 10%
pins: 1, 2

## C_TANT, 470 µF, 10 V, TPS Series, ± 10%, 2917 [7343 Metric]
designator C?, comment 470uF/10V
Tantalum Capacitors - Solid SMD 470uF 10V 10% L ESR; MPN: TPSE477K010R0100; Type: TANTAL; MF: AVX; VoltageRating: 10V; Capacitance: 470uF; Precision: 10%
footprint TAN_X/E (Capacitor, SM Tantalum; Body 7.3 x 4.3 mm (LxW typ))
pins: 1, 2

## FB, 30 ohm, 0603 [1608 Metric], MFB Series, 3 A, 0.04 ohm, ± 25%
designator L?, comment 30R
Ferrite Bead, 30 ohm, 0603 [1608 Metric], MFB Series, 3 A, 0.04 ohm, ± 25%; MPN: MFB-160808-0030PQ; MF: MEC MARCOM; DC Current Rating: 3A; DC Resistance Max:: 0R04; Tolerance: ±25%; Impedance: 30R
footprint L0603 (0603 inductor)
footprint L0402 (0402 inductor)
pins: 1, 2

## FB, 100 ohm, 0603 [1608 Metric], MPZ Series, 3 A, 0.03 ohm, ± 25%
designator L?, comment 100R@100MHz
Ferrite Bead, 100 ohm, 0603 [1608 Metric], MPZ Series, 3 A, 0.03 ohm, ± 25%; MPN: MPZ1608S101A; MF: TDK; DC Current Rating: 3A; DC Resistance Max:: 0.03R; Tolerance: ±25%; Impedance: 100R@100MHz
footprint L0603 (0603 inductor)
footprint L0402 (0402 inductor)
pins: 1, 2

## FB, 300 ohm, 0603 [1608 Metric], 2 A, 0.15 ohm, ± 25%
designator L?, comment 300R @ 100MHz
Ferrite Bead, 300 ohm, 0603 [1608 Metric], 2 A, 0.15 ohm, ± 25%; MPN: 742792641; MF: WURTH ELEKTRONIK; DC Current Rating: 2A; DC Resistance Max:: 0R15; Tolerance: ±25%; Impedance: 300R @ 100MHz
footprint L0603 (0603 inductor)
pins: 1, 2

## FB, 600 ohm, 0603 [1608 Metric], 200 mA, 0.45 ohm, ± 25%
designator L?, comment 600R @ 100MHz
Ferrite Bead, 600 ohm, 0603 [1608 Metric], 200 mA, 0.45 ohm, ± 25%; MPN: 74279265; MF: WURTH ELEKTRONIK; DC Current Rating: 200mA; DC Resistance Max:: 0R45; Tolerance: ±25%; Impedance: 600R @ 100MHz
footprint L0603 (0603 inductor)
pins: 1, 2

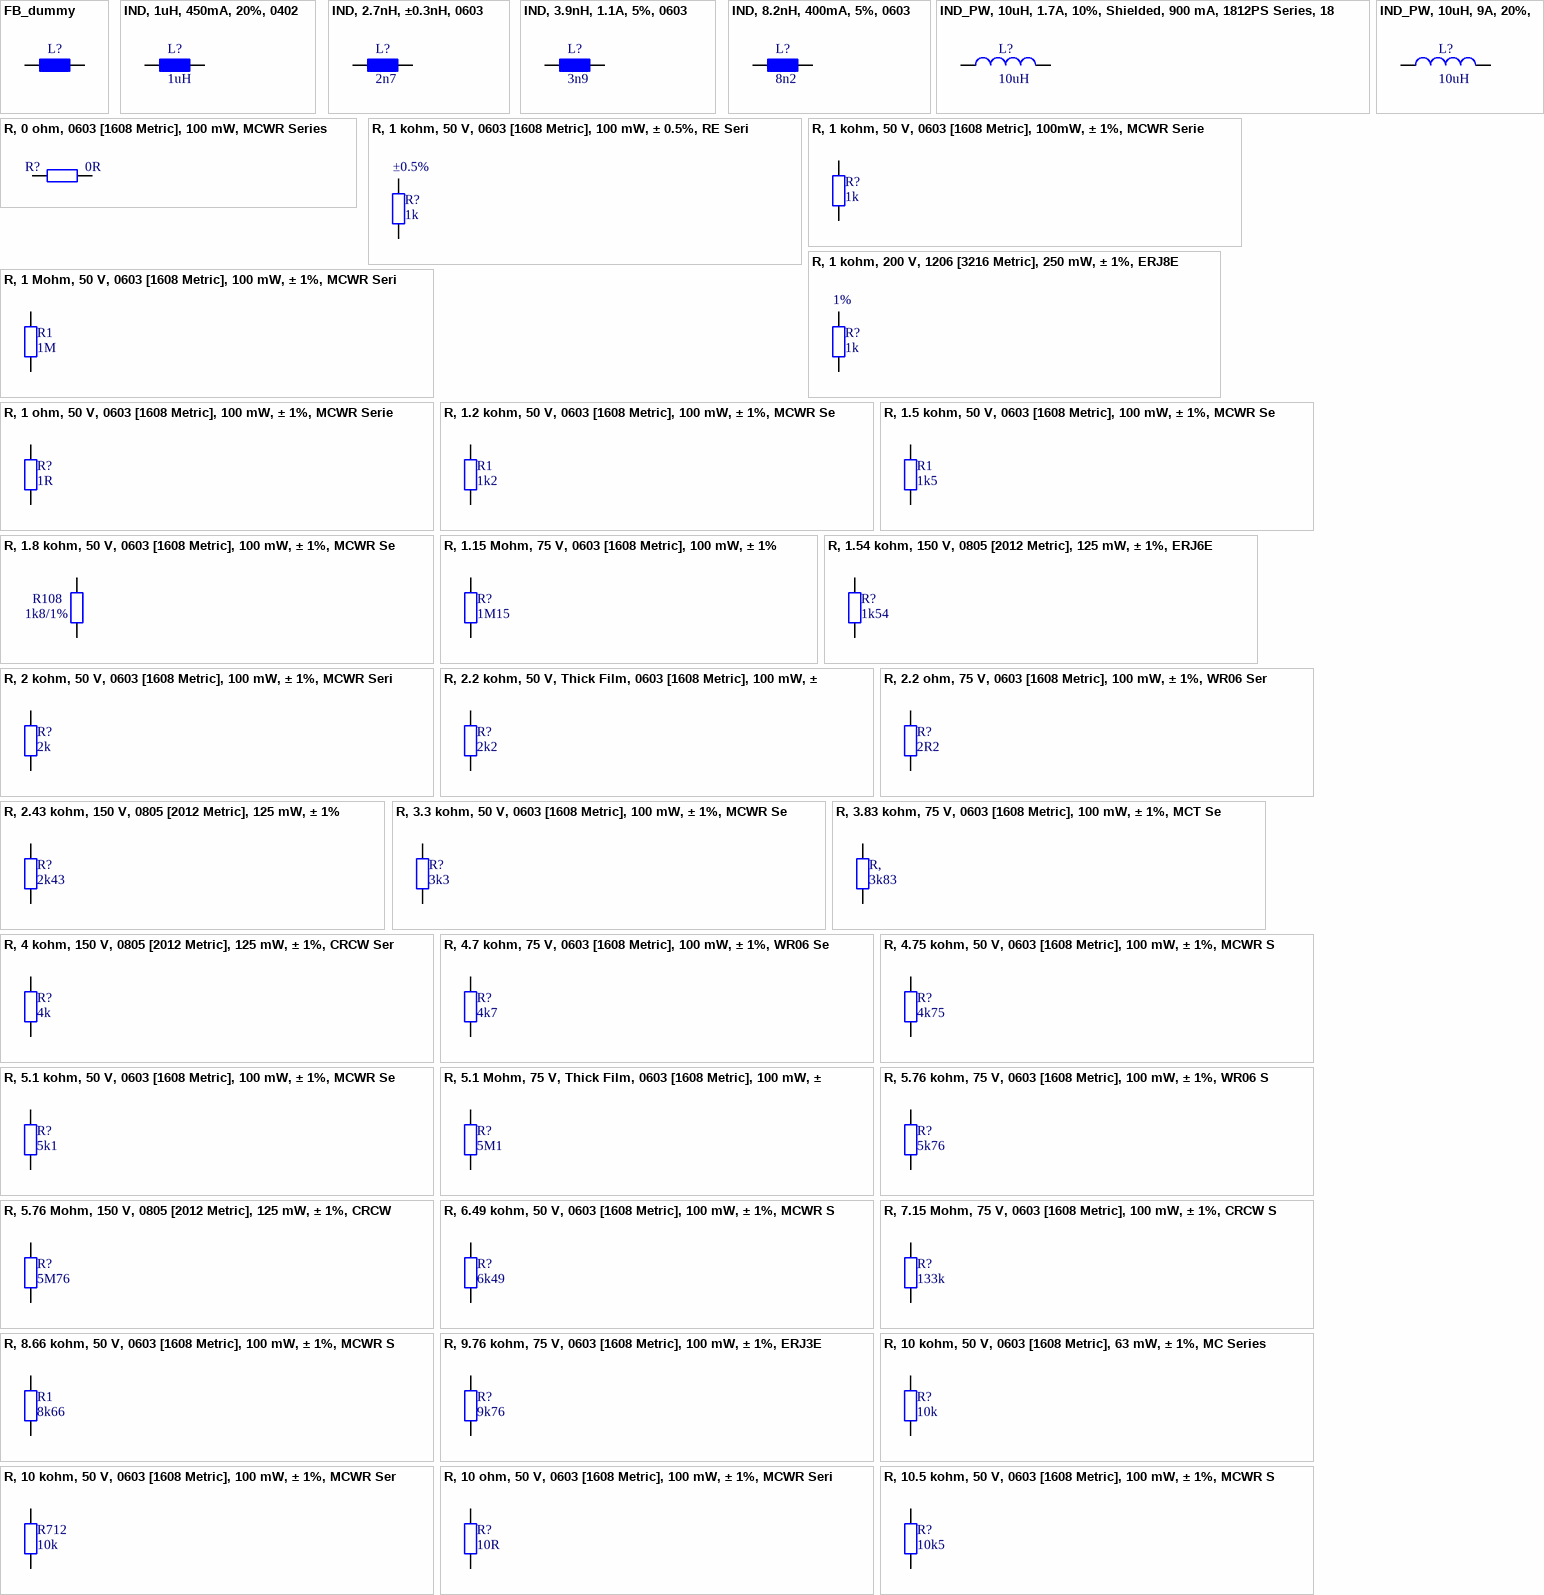
[diagram p2: symbols FB_dummy to R, 10.5 kohm, 50 V, 0603 [1608 Metric], 100 mW, ± 1%, MCWR Series]

## FB_dummy
designator L?
footprint L0603 (0603 inductor)
footprint L0402 (0402 inductor)
pins: 1, 2

## IND, 1uH, 450mA, 20%, 0402
designator L?, comment 1uH
Fixed Inductors 1 UH 20%; MPN: MLZ1005M1R0WT000; MF: TDK; DC Current Rating: 450mA; DC Resistance Max:: 0R35; Tolerance: ±20%; Inductance: 1uH
footprint L0402 (0402 inductor)
pins: 1, 2

## IND, 2.7nH, ±0.3nH, 0603
designator L?, comment 2n7
Surface Mount High Frequency Inductor, B82496C Series, 2.7 nH, 0603 [1608 Metric]; MPN: LQG18HH2N7S00D; MF: MURATA; Tolerance: ±0.3nH; DC Current Rating: 1.1A; DC Resistance Max:: 0R065; Inductance: 2n7
footprint L0603 (0603 inductor)
pins: 1, 2

## IND, 3.9nH, 1.1A, 5%, 0603
designator L?, comment 3n9
Surface Mount High Frequency Inductor, B82496C Series, 3.9 nH, 1.1 A, 0603 [1608 Metric], Wirewound; MPN: B82496C3399J000; MF: EPCOS; Tolerance: ±5%; DC Current Rating: 1.1A; DC Resistance Max:: 0R065; Inductance: 3n9
footprint L0603 (0603 inductor)
pins: 1, 2

## IND, 8.2nH, 400mA, 5%, 0603
designator L?, comment 8n2
Surface Mount High Frequency Inductor, LQG18HN Series, 8.2 nH, 400 mA, 0603 [1608 Metric]; MPN: LQG18HN8N2J00D; MF: MURATA; Tolerance: ±5%; DC Current Rating: 400mA; DC Resistance Max:: 0R25; Inductance: 8n2
footprint L0603 (0603 inductor)
pins: 1, 2

## IND_PW, 10uH, 1.7A, 10%, Shielded, 900 mA, 1812PS Series, 1812 [4525 Metric]
designator L?, comment 10uH
Power Inductor (SMD), 10 µH, 1.7 A, Shielded, 900 mA, 1812PS Series, 1812 [4525 Metric]; MPN: 1812PS-103KLC; MF: COILCRAFT; Tolerance: ±10%; DC Resistance Max:: 0R17; Inductance: 10uH
footprint 1812PS-103KLC
pins: 1, 2

## IND_PW, 10uH, 9A, 20%,
designator L?, comment 10uH
Power Inductor (SMD), 10 µH, 9 A, 16 A, SRP1250 Series, 13.9mm x 13.5mm x 5.9mm, Shielded; MPN: SRP1250-100M; Tolerance: ±20%; DC Current Rating: 1.1A; DC Resistance Max:: 0R065; Inductance: 10uH
footprint SRP1250-100M (Power Inductor (SMD), 10 µH, 9 A, 16 A, SRP1250 Series, 13.9mm x 13.5mm x 5.9mm, Shielded)
pins: 1, 2

## R, 0 ohm, 0603 [1608 Metric], 100 mW, MCWR Series
designator R?, comment 0R
SMD Chip Resistor, Thick Film, 0 ohm, 0603 [1608 Metric], 100 mW, MCWR Series; MPN: MCWR06X000 PTL; Temp coefficient: *ppm; PowerRating: 100mW; MF: MULTICOMP; Resistance: 0R
footprint R0402 (0402 resistor)
footprint R0603 (0603 resistor)
footprint R0805 (0805 resistor)
footprint R1206 (1206 resistor)
footprint R2512 (2512 resistor)
footprint R0201 (0201 resistor)
footprint R1210 (1210 resistor)
footprint R1812 (1812 resistor)
footprint R2010 (2010 resistor)
footprint R2512 (2512 resistor)
pins: 1, 2

## R, 1 kohm, 50 V, 0603 [1608 Metric], 100 mW, ± 0.5%, RE Series
designator R?, comment Precision: ±0.5%  (hidden comment: 1k)
SMD Chip Resistor, Thick Film, 1 kohm, 50 V, 0603 [1608 Metric], 100 mW, ± 0.5%, RE Series; MPN: RE0603DR-071KL; VoltageRating: 50V; Temp coefficient: *ppm; PowerRating: 100mW; MF: YAGEO (PHYCOMP); Resistance: 1k
footprint R0402 (0402 resistor)
footprint R0603 (0603 resistor)
footprint R0805 (0805 resistor)
footprint R1206 (1206 resistor)
footprint R2512 (2512 resistor)
footprint R0201 (0201 resistor)
footprint R1210 (1210 resistor)
footprint R1812 (1812 resistor)
footprint R2010 (2010 resistor)
footprint R2512 (2512 resistor)
pins: 1, 2

## R, 1 kohm, 50 V, 0603 [1608 Metric], 100mW, ± 1%, MCWR Series
designator R?, comment 1k
SMD Chip Resistor, Thick Film, 1 kohm, 50 V, 0603 [1608 Metric], 100 mW, ± 1%, MCWR Series; MPN: MCWR06X1001FTL; VoltageRating: 50V; Temp coefficient: *ppm; PowerRating: 100mW; MF: MULTICOMP; Precision: 1%; Resistance: 1k
footprint R0603 (0603 resistor)
pins: 1, 2

## R, 1 kohm, 200 V, 1206 [3216 Metric], 250 mW, ± 1%, ERJ8E
designator R?, comment Precision: 1%  (hidden comment: 1k)
SMD Chip Resistor, Thick Film, 1 kohm, 50 V, 0603 [1608 Metric], 100 mW, ± 0.5%, RE Series; MPN: RE0603DR-071KL; VoltageRating: 200V; Temp coefficient: *ppm; PowerRating: 250mW; MF: YAGEO (PHYCOMP); Resistance: 1k
footprint R1206 (1206 resistor)
pins: 1, 2

## R, 1 Mohm, 50 V, 0603 [1608 Metric], 100 mW, ± 1%, MCWR Series
designator R1, comment 1M
SMD Chip Resistor, Thick Film, 1 Mohm, 50 V, 0603 [1608 Metric], 100 mW, ± 1%, MCWR Series; MPN: MCWR06X1004FTL; VoltageRating: 50V; Temp coefficient: *ppm; PowerRating: 100mW; MF: MULTICOMP; Precision: 1%; Resistance: 1M
footprint R0603 (0603 resistor)
pins: 1, 2

## R, 1 ohm, 50 V, 0603 [1608 Metric], 100 mW, ± 1%, MCWR Series
designator R?, comment 1R
SMD Chip Resistor, Thick Film, 1 ohm, 50 V, 0603 [1608 Metric], 100 mW, ± 1%, MCWR Series; MPN: MCWR06W1R00FTL; VoltageRating: 50V; Temp coefficient: *ppm; PowerRating: 100mW; MF: MULTICOMP; Precision: 1%; Resistance: 1R
footprint R0402 (0402 resistor)
footprint R0603 (0603 resistor)
footprint R0805 (0805 resistor)
footprint R1206 (1206 resistor)
footprint R2512 (2512 resistor)
footprint R0201 (0201 resistor)
footprint R1210 (1210 resistor)
footprint R1812 (1812 resistor)
footprint R2010 (2010 resistor)
footprint R2512 (2512 resistor)
pins: 1, 2

## R, 1.2 kohm, 50 V, 0603 [1608 Metric], 100 mW, ± 1%, MCWR Series
designator R1, comment 1k2
SMD Chip Resistor, Thick Film, 1.2 kohm, 50 V, 0603 [1608 Metric], 100 mW, ± 1%, MCWR Series; MPN: MCWR06X1201FTL; VoltageRating: 50V; Temp coefficient: *ppm; PowerRating: 100mW; MF: MULTICOMP; Precision: 1%; Resistance: 1k2
footprint R0603 (0603 resistor)
pins: 1, 2

## R, 1.5 kohm, 50 V, 0603 [1608 Metric], 100 mW, ± 1%, MCWR Series
designator R1, comment 1k5
SMD Chip Resistor, Thick Film, 1.5 kohm, 50 V, 0603 [1608 Metric], 100 mW, ± 1%, MCWR Series; MPN: MCWR06X1501FTL; VoltageRating: 50V; Temp coefficient: *ppm; PowerRating: 63mW; MF: MULTICOMP; Precision: 1%; Resistance: 1k5
footprint R0603 (0603 resistor)
pins: 1, 2

## R, 1.8 kohm, 50 V, 0603 [1608 Metric], 100 mW, ± 1%, MCWR Series
designator R108, comment 1k8/1%
SMD Chip Resistor, Thick Film, 1.8 kohm, 50 V, 0603 [1608 Metric], 100 mW, ± 1%, MCWR Series; MPN: MCWR06X1801FTL; Voltage rating: 50V; Temp coefficient: *ppm; Power rating: 100mW; MF: MULTICOMP; ComponentLinknDescription: Datasheet; Resistance: 1k8; Precision: 1%; ComponentLinknURL: *
footprint R0402 (0402 resistor)
footprint R0603 (0603 resistor)
footprint R0805 (0805 resistor)
footprint R1206 (1206 resistor)
footprint R2512 (2512 resistor)
footprint R0201 (0201 resistor)
footprint R1210 (1210 resistor)
footprint R1812 (1812 resistor)
footprint R2010 (2010 resistor)
footprint R2512 (2512 resistor)
pins: 1, 2

## R, 1.15 Mohm, 75 V, 0603 [1608 Metric], 100 mW, ± 1%
designator R?, comment 1M15
SMD Chip Resistor, 1.15 Mohm, MC Series, 75 V, Thick Film, 0603 [1608 Metric], 100 mW; MPN: RC0603FR-071M15L; Precision: 1%; VoltageRating: 75V; Temp coefficient: *ppm; PowerRating: 100mW; MF: YAEGO; Resistance: 1M15
footprint R0603 (0603 resistor)
pins: 1, 2

## R, 1.54 kohm, 150 V, 0805 [2012 Metric], 125 mW, ± 1%, ERJ6E Series
designator R?, comment 1k54
SMD Chip Resistor, Thick Film, 1.54 kohm, 150 V, 0805 [2012 Metric], 125 mW, ± 1%, ERJ6E Series; MPN: ERJ6ENF1541V; VoltageRating: 150V; Temp coefficient: *ppm; PowerRating: 125mW; MF: PANASONIC ELECTRONIC COMPONENTS; Precision: 1%; Resistance: 1k54
footprint R0805 (0805 resistor)
pins: 1, 2

## R, 2 kohm, 50 V, 0603 [1608 Metric], 100 mW, ± 1%, MCWR Series
designator R?, comment 2k
SMD Chip Resistor, Thick Film, 2 kohm, 50 V, 0603 [1608 Metric], 100 mW, ± 1%, MCWR Series; MPN: MCWR06X2001FTL; VoltageRating: 50V; Temp coefficient: *ppm; PowerRating: 100mW; MF: MULTICOMP; Precision: 1%; Resistance: 2k
footprint R0402 (0402 resistor)
footprint R0603 (0603 resistor)
footprint R0805 (0805 resistor)
footprint R1206 (1206 resistor)
footprint R2512 (2512 resistor)
footprint R0201 (0201 resistor)
footprint R1210 (1210 resistor)
footprint R1812 (1812 resistor)
footprint R2010 (2010 resistor)
footprint R2512 (2512 resistor)
pins: 1, 2

## R, 2.2 kohm, 50 V, Thick Film, 0603 [1608 Metric], 100 mW, ± 1%
designator R?, comment 2k2
SMD Chip Resistor, 2.2 kohm, 50 V, Thick Film, 0603 [1608 Metric], 100 mW, ± 1%; MPN: MCWR06X2201FTL; VoltageRating: 50V; Temp coefficient: *ppm; PowerRating: 100mW; MF: MULTICOMP; Precision: 1%; Resistance: 2k2
footprint R0402 (0402 resistor)
footprint R0603 (0603 resistor)
footprint R0805 (0805 resistor)
footprint R1206 (1206 resistor)
footprint R2512 (2512 resistor)
footprint R0201 (0201 resistor)
footprint R1210 (1210 resistor)
footprint R1812 (1812 resistor)
footprint R2010 (2010 resistor)
footprint R2512 (2512 resistor)
pins: 1, 2

## R, 2.2 ohm, 75 V, 0603 [1608 Metric], 100 mW, ± 1%, WR06 Series
designator R?, comment 2R2
SMD Chip Resistor, 2.2 ohm, 75 V, 0603 [1608 Metric], 100 mW, ± 1%, WR06 Series; MPN: WR06W2R20FTL; VoltageRating: 75V; Temp coefficient: *ppm; PowerRating: 100mW; MF: WALSIN; Precision: 1%; Resistance: 2R2
footprint R0402 (0402 resistor)
footprint R0603 (0603 resistor)
footprint R0805 (0805 resistor)
footprint R1206 (1206 resistor)
footprint R2512 (2512 resistor)
footprint R0201 (0201 resistor)
footprint R1210 (1210 resistor)
footprint R1812 (1812 resistor)
footprint R2010 (2010 resistor)
footprint R2512 (2512 resistor)
pins: 1, 2

## R, 2.43 kohm, 150 V, 0805 [2012 Metric], 125 mW, ± 1%
designator R?, comment 2k43
SMD Chip Resistor, Thick Film, 2.43 kohm, 150 V, 0805 [2012 Metric], 125 mW, ± 1%; MPN: ERJ6ENF2431V; VoltageRating: 150V; Temp coefficient: *ppm; PowerRating: 125mW; MF: PANASONIC ELECTRONIC COMPONENTS; Precision: 1%; Resistance: 2k43
footprint R0805 (0805 resistor)
pins: 1, 2

## R, 3.3 kohm, 50 V, 0603 [1608 Metric], 100 mW, ± 1%, MCWR Series
designator R?, comment 3k3
SMD Chip Resistor, Thick Film, 3.3 kohm, 50 V, 0603 [1608 Metric], 100 mW, ± 1%, MCWR Series; MPN: MCWR06X3301FTL; VoltageRating: 50V; Temp coefficient: *ppm; PowerRating: 100mW; MF: MULTICOMP; Precision: 1%; Resistance: 3k3
footprint R0603 (0603 resistor)
pins: 1, 2

## R, 3.83 kohm, 75 V, 0603 [1608 Metric], 100 mW, ± 1%, MCT Series
designator R,, comment 3k83
SMD Chip Resistor, Thin Film, 3.83 kohm, 75 V, 0603 [1608 Metric], 100 mW, ± 1%, MCT Series; MPN: MCT06030C3831FP500; VoltageRating: 75V; Temp coefficient: *ppm; PowerRating: 100mW; MF: VISHAY; Precision: 1%; Resistance: 3k83
footprint R0603 (0603 resistor)
pins: 1, 2

## R, 4 kohm, 150 V, 0805 [2012 Metric], 125 mW, ± 1%, CRCW Series
designator R?, comment 4k
SMD Chip Resistor, Thick Film, 4 kohm, 150 V, 0805 [2012 Metric], 125 mW, ± 1%, CRCW Series; MPN: CRCW08054K00FKTA; VoltageRating: 150V; Temp coefficient: *ppm; PowerRating: 125mW; MF: VISHAY; Precision: 1%; Resistance: 4k
footprint R0805 (0805 resistor)
pins: 1, 2

## R, 4.7 kohm, 75 V, 0603 [1608 Metric], 100 mW, ± 1%, WR06 Series
designator R?, comment 4k7
SMD Chip Resistor, 4.7 kohm, 75 V, 0603 [1608 Metric], 100 mW, ± 1%, WR06 Series; MPN: WR06X4701FTL; VoltageRating: 75V; Temp coefficient: *ppm; PowerRating: 100mW; MF: WALSIN; Precision: 1%; Resistance: 4k7
footprint R0402 (0402 resistor)
footprint R0603 (0603 resistor)
footprint R0805 (0805 resistor)
footprint R1206 (1206 resistor)
footprint R2512 (2512 resistor)
footprint R0201 (0201 resistor)
footprint R1210 (1210 resistor)
footprint R1812 (1812 resistor)
footprint R2010 (2010 resistor)
footprint R2512 (2512 resistor)
pins: 1, 2

## R, 4.75 kohm, 50 V, 0603 [1608 Metric], 100 mW, ± 1%, MCWR Series
designator R?, comment 4k75
SMD Chip Resistor, Thick Film, 4.75 kohm, 50 V, 0603 [1608 Metric], 100 mW, ± 1%, MCWR Series; MPN: MCWR06X4751FTL; VoltageRating: 50V; Temp coefficient: *ppm; PowerRating: 100mW; MF: MULTICOMP; Precision: 1%; Resistance: 4k75
footprint R0402 (0402 resistor)
footprint R0603 (0603 resistor)
footprint R0805 (0805 resistor)
footprint R1206 (1206 resistor)
footprint R2512 (2512 resistor)
footprint R0201 (0201 resistor)
footprint R1210 (1210 resistor)
footprint R1812 (1812 resistor)
footprint R2010 (2010 resistor)
footprint R2512 (2512 resistor)
pins: 1, 2

## R, 5.1 kohm, 50 V, 0603 [1608 Metric], 100 mW, ± 1%, MCWR Series
designator R?, comment 5k1
SMD Chip Resistor, Thick Film, 5.1 kohm, 50 V, 0603 [1608 Metric], 100 mW, ± 1%, MCWR Series; MPN: MCWR06X5101FTL; VoltageRating: 50V; Temp coefficient: *ppm; PowerRating: 100mW; MF: MULTICOMP; Precision: 1%; Resistance: 5k1
footprint R0402 (0402 resistor)
footprint R0603 (0603 resistor)
footprint R0805 (0805 resistor)
footprint R1206 (1206 resistor)
footprint R2512 (2512 resistor)
footprint R0201 (0201 resistor)
footprint R1210 (1210 resistor)
footprint R1812 (1812 resistor)
footprint R2010 (2010 resistor)
footprint R2512 (2512 resistor)
pins: 1, 2

## R, 5.1 Mohm, 75 V, Thick Film, 0603 [1608 Metric], 100 mW, ± 1%
designator R?, comment 5M1
SMD Chip Resistor, 5.1 Mohm, 75 V, Thick Film, 0603 [1608 Metric], 100 mW, ± 1%; MPN: MCWR06W5104FTL; VoltageRating: 75V; Temp coefficient: *ppm; PowerRating: 100mW; MF: MULTICOMP; Precision: 1%; Resistance: 5M1
footprint R0402 (0402 resistor)
footprint R0603 (0603 resistor)
footprint R0805 (0805 resistor)
footprint R1206 (1206 resistor)
footprint R2512 (2512 resistor)
footprint R0201 (0201 resistor)
footprint R1210 (1210 resistor)
footprint R1812 (1812 resistor)
footprint R2010 (2010 resistor)
footprint R2512 (2512 resistor)
pins: 1, 2

## R, 5.76 kohm, 75 V, 0603 [1608 Metric], 100 mW, ± 1%, WR06 Series
designator R?, comment 5k76
SMD Chip Resistor, 5.76 kohm, 75 V, 0603 [1608 Metric], 100 mW, ± 1%, WR06 Series; MPN: WR06X5761FTL; VoltageRating: 75V; Temp coefficient: *ppm; PowerRating: 100mW; MF: WALSIN; Precision: 1%; Resistance: 5k76
footprint R0402 (0402 resistor)
footprint R0603 (0603 resistor)
footprint R0805 (0805 resistor)
footprint R1206 (1206 resistor)
footprint R2512 (2512 resistor)
footprint R0201 (0201 resistor)
footprint R1210 (1210 resistor)
footprint R1812 (1812 resistor)
footprint R2010 (2010 resistor)
footprint R2512 (2512 resistor)
pins: 1, 2

## R, 5.76 Mohm, 150 V, 0805 [2012 Metric], 125 mW, ± 1%, CRCW Series
designator R?, comment 5M76
SMD Chip Resistor, Thick Film, 5.76 Mohm, 150 V, 0805 [2012 Metric], 125 mW, ± 1%, CRCW Series; MPN: CRCW08055M76FKEA; VoltageRating: 150V; Temp coefficient: *ppm; PowerRating: 125mW; MF: VISHAY; Precision: 1%; Resistance: 5M76
footprint R0402 (0402 resistor)
footprint R0603 (0603 resistor)
footprint R0805 (0805 resistor)
footprint R1206 (1206 resistor)
footprint R2512 (2512 resistor)
footprint R0201 (0201 resistor)
footprint R1210 (1210 resistor)
footprint R1812 (1812 resistor)
footprint R2010 (2010 resistor)
footprint R2512 (2512 resistor)
pins: 1, 2

## R, 6.49 kohm, 50 V, 0603 [1608 Metric], 100 mW, ± 1%, MCWR Series
designator R?, comment 6k49
SMD Chip Resistor, Thick Film, 6.49 kohm, 50 V, 0603 [1608 Metric], 100 mW, ± 1%, MCWR Series; MPN: MCWR06X6491FTL; VoltageRating: 50V; Temp coefficient: *ppm; PowerRating: 100mW; MF: MULTICOMP; Precision: 1%; Resistance: 6k49
footprint R0603 (0603 resistor)
pins: 1, 2

## R, 7.15 Mohm, 75 V, 0603 [1608 Metric], 100 mW, ± 1%, CRCW Series
designator R?, comment 133k
SMD Chip Resistor, Thick Film, 7.15 Mohm, 75 V, 0603 [1608 Metric], 100 mW, ± 1%, CRCW Series; MPN: CRCW06037M15FKEA.; VoltageRating: 75V; Temp coefficient: *ppm; PowerRating: 100mW; MF: VISHAY; Precision: 1%; Resistance: 133k
footprint R0402 (0402 resistor)
footprint R0603 (0603 resistor)
footprint R0805 (0805 resistor)
footprint R1206 (1206 resistor)
footprint R2512 (2512 resistor)
footprint R0201 (0201 resistor)
footprint R1210 (1210 resistor)
footprint R1812 (1812 resistor)
footprint R2010 (2010 resistor)
footprint R2512 (2512 resistor)
pins: 1, 2

## R, 8.66 kohm, 50 V, 0603 [1608 Metric], 100 mW, ± 1%, MCWR Series
designator R1, comment 8k66
SMD Chip Resistor, Thick Film, 8.66 kohm, 50 V, 0603 [1608 Metric], 100 mW, ± 1%, MCWR Series; MPN: MCWR06X8661FTL; VoltageRating: 50V; Temp coefficient: *ppm; PowerRating: 100mW; MF: MULTICOMP; Precision: 1%; Resistance: 8k66
footprint R0603 (0603 resistor)
pins: 1, 2

## R, 9.76 kohm, 75 V, 0603 [1608 Metric], 100 mW, ± 1%, ERJ3E Series
designator R?, comment 9k76
SMD Chip Resistor, Thick Film, 9.76 kohm, 75 V, 0603 [1608 Metric], 100 mW, ± 1%, ERJ3E Series; MPN: ERJ3EKF9761V; VoltageRating: 75V; Temp coefficient: *ppm; PowerRating: 100mW; MF: PANASONIC ELECTRONIC COMPONENTS; Precision: 1%; Resistance: 9k76
footprint R0603 (0603 resistor)
pins: 1, 2

## R, 10 kohm, 50 V, 0603 [1608 Metric], 63 mW, ± 1%, MC Series
designator R?, comment 10k
SMD Chip Resistor, Thick Film, 10 kohm, 50 V, 0603 [1608 Metric], 63 mW, ± 1%, MC Series; MPN: MC0063W0603110K; VoltageRating: 50V; Temp coefficient: *ppm; PowerRating: 63mW; MF: MULTICOMP; Precision: 1%; Resistance: 10k
footprint R0402 (0402 resistor)
footprint R0603 (0603 resistor)
footprint R0805 (0805 resistor)
footprint R1206 (1206 resistor)
footprint R2512 (2512 resistor)
footprint R0201 (0201 resistor)
footprint R1210 (1210 resistor)
footprint R1812 (1812 resistor)
footprint R2010 (2010 resistor)
footprint R2512 (2512 resistor)
pins: 1, 2

## R, 10 kohm, 50 V, 0603 [1608 Metric], 100 mW, ± 1%, MCWR Series
designator R712, comment 10k
SMD Chip Resistor, Thick Film, 10 kohm, 50 V, 0603 [1608 Metric], 100 mW, ± 1%, MCWR Series; MPN: MCWR06X1002FTL; VoltageRating: 50V; Temp coefficient: *ppm; PowerRating: 100mW; MF: MULTICOMP; Precision: 1%; Manufacturer: *; ComponentLinknURL: *; Resistance: 10k
footprint R0603 (0603 resistor)
pins: 1, 2

## R, 10 ohm, 50 V, 0603 [1608 Metric], 100 mW, ± 1%, MCWR Series
designator R?, comment 10R
SMD Chip Resistor, Thick Film, 10 ohm, 50 V, 0603 [1608 Metric], 100 mW, ± 1%, MCWR Series; MPN: MC0063W0603110K; VoltageRating: 50V; Temp coefficient: *ppm; PowerRating: 100mW; MF: MULTICOMP; Precision: 1%; Resistance: 10R
footprint R0402 (0402 resistor)
footprint R0603 (0603 resistor)
footprint R0805 (0805 resistor)
footprint R1206 (1206 resistor)
footprint R2512 (2512 resistor)
footprint R0201 (0201 resistor)
footprint R1210 (1210 resistor)
footprint R1812 (1812 resistor)
footprint R2010 (2010 resistor)
footprint R2512 (2512 resistor)
pins: 1, 2

## R, 10.5 kohm, 50 V, 0603 [1608 Metric], 100 mW, ± 1%, MCWR Series
designator R?, comment 10k5
SMD Chip Resistor, Thick Film, 10.5 kohm, 50 V, 0603 [1608 Metric], 100 mW, ± 1%, MCWR Series; MPN: MCWR06X1052FTL; VoltageRating: 50V; Temp coefficient: *ppm; PowerRating: 100mW; MF: MULTICOMP; Precision: 1%; Resistance: 10k5
footprint R0402 (0402 resistor)
footprint R0603 (0603 resistor)
footprint R0805 (0805 resistor)
footprint R1206 (1206 resistor)
footprint R2512 (2512 resistor)
footprint R0201 (0201 resistor)
footprint R1210 (1210 resistor)
footprint R1812 (1812 resistor)
footprint R2010 (2010 resistor)
footprint R2512 (2512 resistor)
pins: 1, 2

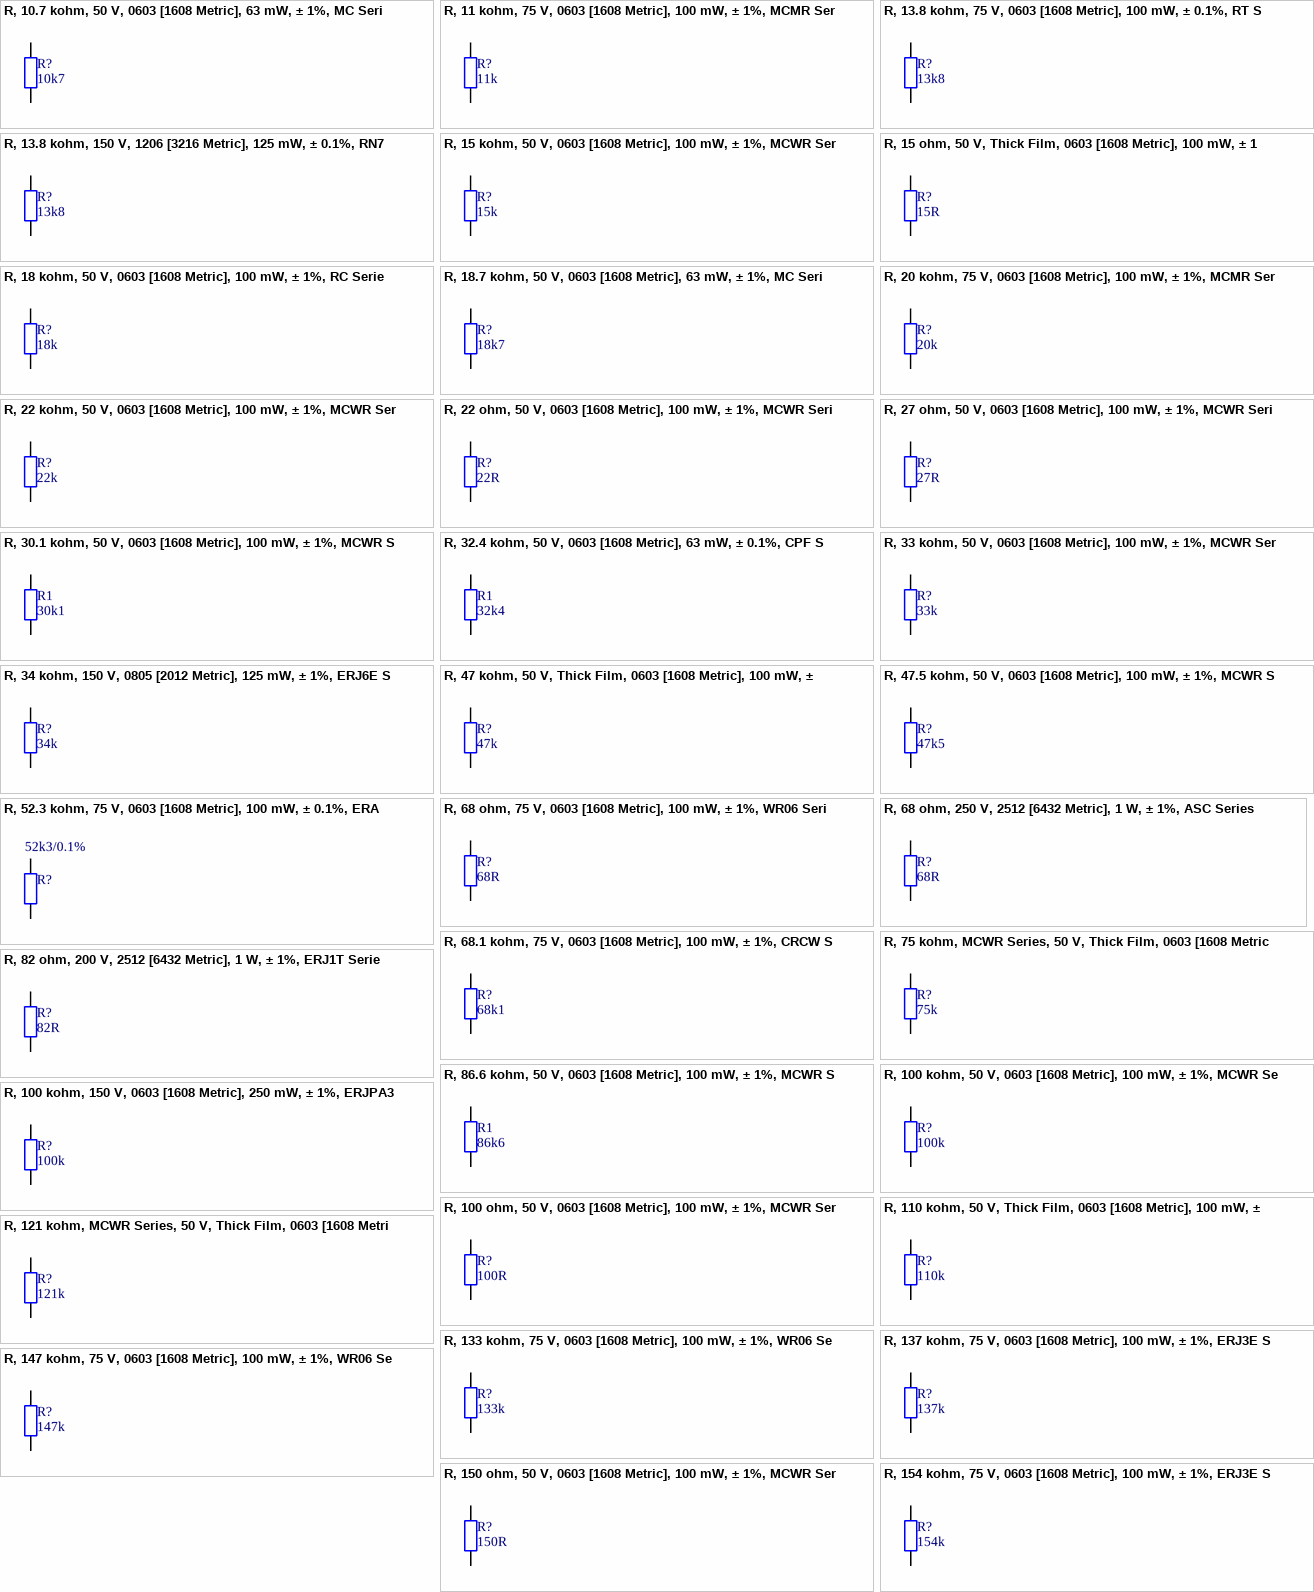
[diagram p3: symbols R, 10.7 kohm, 50 V, 0603 [1608 Metric], 63 mW, ± 1%, MC Series to R, 154 kohm, 75 V, 0603 [1608 Metric], 100 mW, ± 1%, ERJ3E Series]

## R, 10.7 kohm, 50 V, 0603 [1608 Metric], 63 mW, ± 1%, MC Series
designator R?, comment 10k7
SMD Chip Resistor, Thick Film, 10.5 kohm, 50 V, 0603 [1608 Metric], 100 mW, ± 1%, MCWR Series; MPN: MC0063W0603110K7; VoltageRating: 50V; Temp coefficient: *ppm; PowerRating: 63mW; MF: MULTICOMP; Precision: 1%; Resistance: 10k7
footprint R0603 (0603 resistor)
pins: 1, 2

## R, 11 kohm, 75 V, 0603 [1608 Metric], 100 mW, ± 1%, MCMR Series
designator R?, comment 11k
SMD Chip Resistor, Ceramic, 11 kohm, 75 V, 0603 [1608 Metric], 100 mW, ± 1%, MCMR Series; MPN: MCMR06X1102FTL; VoltageRating: 75V; Temp coefficient: *ppm; PowerRating: 100mW; MF: MULTICOMP; Precision: 1%; Resistance: 11k
footprint R0603 (0603 resistor)
pins: 1, 2

## R, 13.8 kohm, 75 V, 0603 [1608 Metric], 100 mW, ± 0.1%, RT Series
designator R?, comment 13k8
SMD Chip Resistor, 13.8 kohm, 75 V, 0603 [1608 Metric], 100 mW, ± 0.1%, RT Series; MPN: RT0603BRD0713K8L; VoltageRating: 75V; Temp coefficient: *ppm; PowerRating: 100mW; MF: YAEGO; Precision: 0.1%; Resistance: 13k8
footprint R0603 (0603 resistor)
pins: 1, 2

## R, 13.8 kohm, 150 V, 1206 [3216 Metric], 125 mW, ± 0.1%, RN73 Seriess
designator R?, comment 13k8
SMD Chip Resistor, 13.8 kohm, 150 V, 1206 [3216 Metric], 125 mW, ± 0.1%, RN73 Series; MPN: RN732BTTD1382B25; VoltageRating: 150V; Temp coefficient: *ppm; PowerRating: 125mW; MF: KOA Speer; Precision: 0.1%; Resistance: 13k8
footprint R1206 (1206 resistor)
pins: 1, 2